# Altium schematic symbol library CD40109BPWE4.SchLib: 1 symbol
Pins are listed as number, name and electrical type; pins without a type are passive.

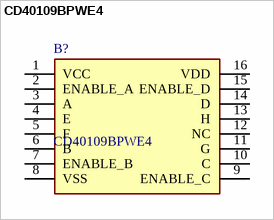
[diagram p0: symbol CD40109BPWE4]

## CD40109BPWE4
designator B?
Translation - Voltage Levels CMOS Quad Lo-to-Hi Vltg Level Shifter; Manufacturer_Name: Texas Instruments; Geometry.Height: 1.2mm; Mouser Part Number: 595-CD40109BPWE4; Mouser Price/Stock: https://www.mouser.co.uk/ProductDetail/Texas-Instruments/CD40109BPWE4?qs=vmM6vcLFxxFENXGAN0nSpA%3D%3D; Manufacturer_Part_Number: CD40109BPWE4; Datasheet Link: https://www.ti.com/lit/ds/symlink/cd40109b.pdf?HQS=dis-mous-null-mousermode-dsf-pf-null-wwe&ts=1618640692719&ref_url=https%253A%252F%252Fwww.mouser.in%252F
footprint SOP65P640X120-16N
pins: 1 VCC, 2 ENABLE_A, 3 A, 4 E, 5 F, 6 B, 7 ENABLE_B, 8 VSS, 9 ENABLE_C, 10 C, 11 G, 12 NC, 13 H, 14 D, 15 ENABLE_D, 16 VDD